# Altium footprint library HabLib.PcbLib: 72 footprints (part 1 of 5)
Each footprint in its own frame and in the unit in brackets; x right, y up, seen from the top. Pads: shape width x height; smd on the part's side, far side on the other; paste and mask are expansions set on the pad; w line width, h text height; cw(c..) or ccw(c..) is an arc to the next point about the centre after c.
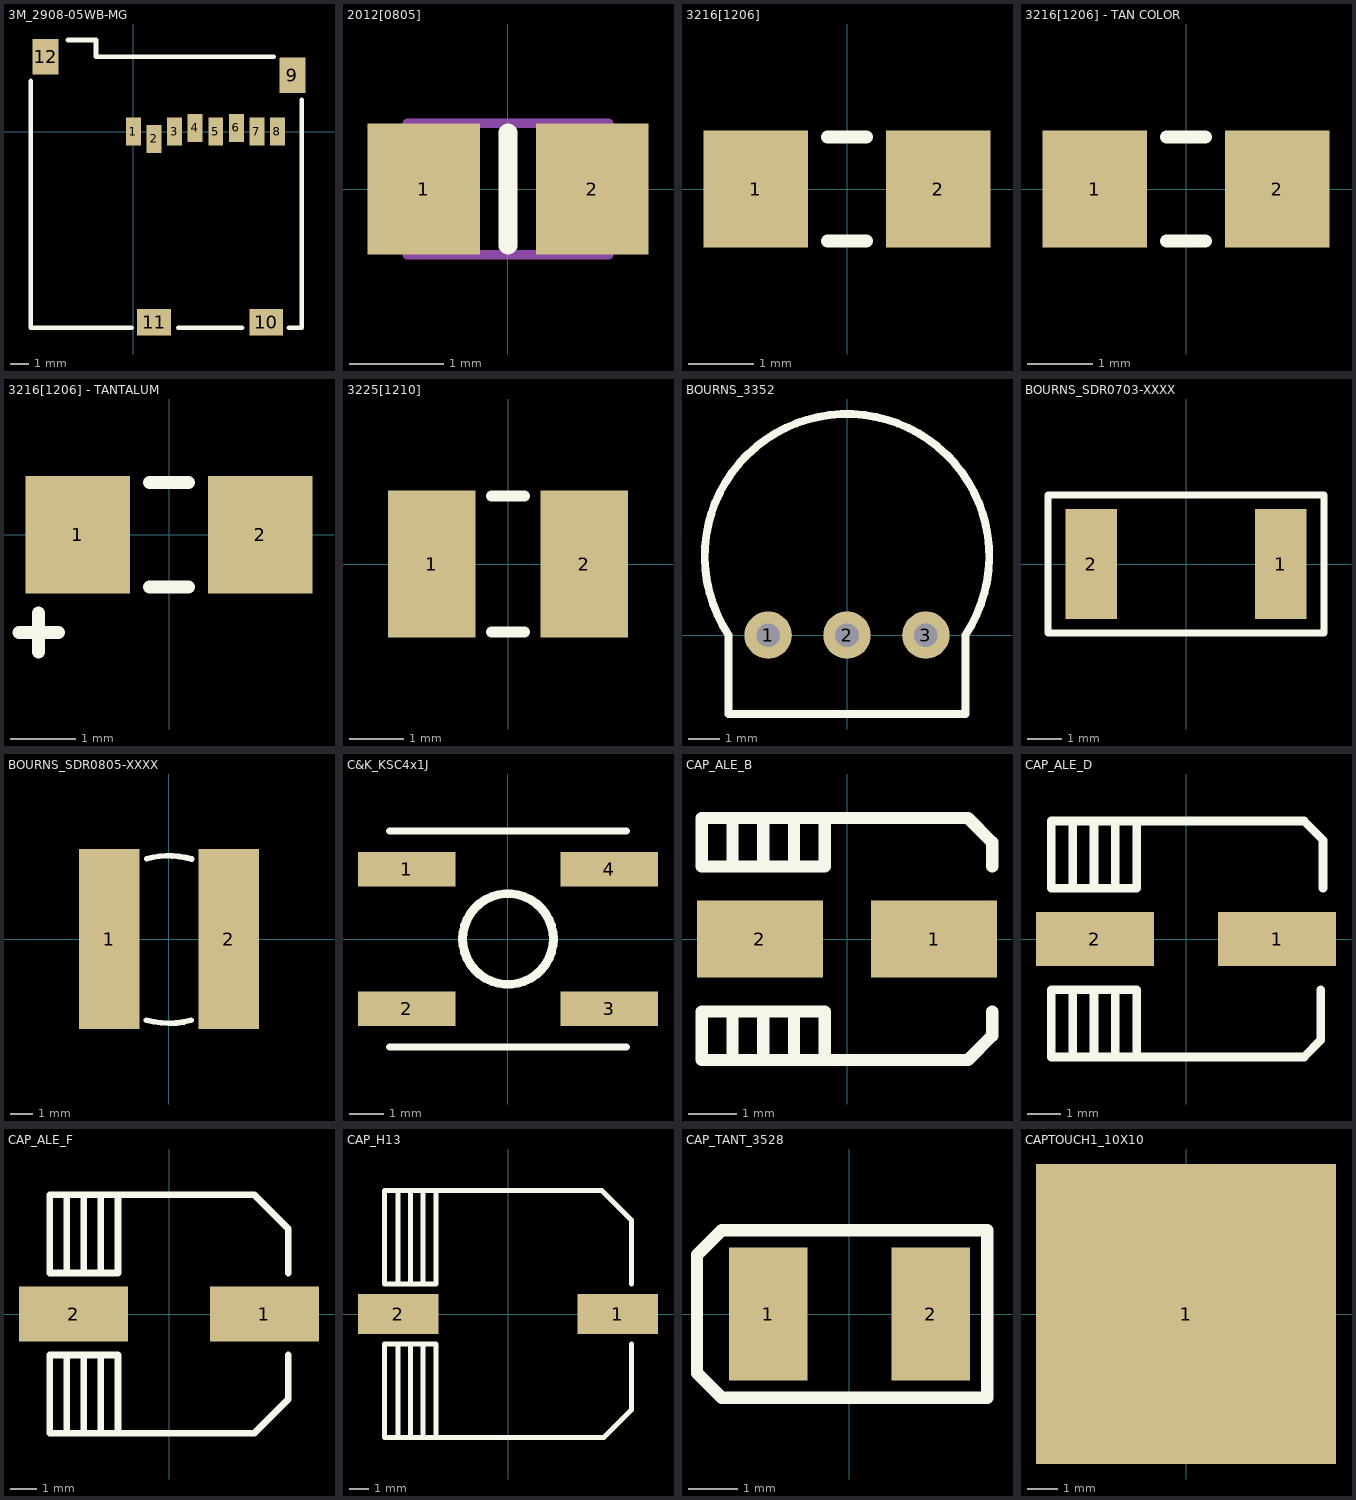
[diagram p0: the footprints below, top view; thin cyan lines are the x and y axes]

## 3M_2908-05WB-MG [mm] "MICROSD 8P PUSH PUSH"
pads (12):
  rect 0.8x1.5 smd: 1(0,0) 2(1.1,-0.4) 3(2.2,0) 4(3.3,0.2) 5(4.4,0) 6(5.5,0.2) 7(6.6,0) 8(7.7,0)
  rect 1.4x1.9 smd: 9(8.5,3) 12(-4.7,4)
  rect 1.8x1.4 smd: 10(7.1,-10.2) 11(1.1,-10.2)
Top Overlay:
  lines w0.254: -5.5,2.7 -5.5,-10.5 -0.1,-10.5 ; -3.5,4.9 -2,4.9 -2,4 7.5,4 ; 2.4,-10.5 5.8,-10.5 ; 8.3,-10.5 9,-10.5 9,1.7
3D body: height 1.85, standoff 0, extent -5.5,-10.5 9,5

## 2012[0805] [mm] "Chip Resistor, Body 2.0x1.3mm, IPC Medium Density"
height 0.65
pads (2):
  rect 1.2x1.4 smd: 1(-0.9,0) 2(0.9,0)
Top Overlay:
  lines w0.2: 0,-0.6 0,0.6
Mechanical 13:
  lines w0.1: -1.075,-0.7 1.075,-0.7 ; -1.075,0.7 1.075,0.7
Mechanical 15:
  lines w0.1: 0,-0.5 0,0.5
3D body: height 0.65, standoff 0, extent -1.2,-0.7 -0.8,0.7
3D body: height 0.65, standoff 0, extent -0.8,-0.7 0.8,0.7
3D body: height 0.65, standoff 0, extent 0.8,-0.7 1.2,0.7

## 3216[1206] [mm] "Chip Resistor; Body 3.2 x 1.6 mm (LxW typ)"
height 2.54
pads (2):
  rect 1.6x1.8 smd: 1(-1.4,0) 2(1.4,0)
Top Overlay:
  lines w0.2: -0.3,-0.8 0.3,-0.8 ; -0.3,0.8 0.3,0.8
3D body: height 0.56, standoff 0, extent 1.651,-0.762 2.032,0.762
3D body: height 0.56, standoff 0, extent -2.032,-0.762 -1.651,0.762
3D body: height 0.56, standoff 0, extent -1.651,-0.762 1.651,0.762

## 3216[1206] - TAN COLOR [mm] "Chip Resistor; Body 3.2 x 1.6 mm (LxW typ)"
height 2.54
pads (2):
  rect 1.6x1.8 smd: 1(-1.4,0) 2(1.4,0)
Top Overlay:
  lines w0.2: -0.3,-0.8 0.3,-0.8 ; -0.3,0.8 0.3,0.8
3D body: height 0.56, standoff 0, extent -1.651,-0.762 1.651,0.762
3D body: height 0.56, standoff 0, extent -2.032,-0.762 -1.651,0.762
3D body: height 0.56, standoff 0, extent 1.651,-0.762 2.032,0.762

## 3216[1206] - TANTALUM [mm] "Chip Resistor; Body 3.2 x 1.6 mm (LxW typ)"
height 2.54
pads (2):
  rect 1.6x1.8 smd: 1(-1.4,0) 2(1.4,0)
Top Overlay:
  lines w0.2: -0.3,-0.8 0.3,-0.8 ; -0.3,0.8 0.3,0.8
  lines w0.203: -2.3,-1.5 -1.7,-1.5 ; -2,-1.8 -2,-1.2
3D body: height 0.56, standoff 0, extent -2.032,-0.762 2.032,0.762
3D body: height 0.56, standoff 0.56, extent -2.032,-0.762 -1.651,0.762

## 3225[1210] [mm] "Chip Resistor; Body 3.2 x 2.5 mm (LxW typ)"
height 0.6
pads (2):
  rect 1.6x2.7 smd: 1(-1.4,0) 2(1.4,0)
Top Overlay:
  lines w0.2: -0.3,-1.25 0.3,-1.25 ; -0.3,1.25 0.3,1.25
3D body: height 0.56, standoff 0, extent 1.651,-1.143 2.032,1.143
3D body: height 0.56, standoff 0, extent -2.032,-1.143 -1.651,1.143
3D body: height 0.56, standoff 0, extent -1.651,-1.143 1.651,1.143

## BOURNS_3352 [mil] "RESISTOR POT THUMBWHEEL CERM TH"
pads (3):
  round 60 hole 30: 1(-100,0) 2(0,0) 3(100,0)
Top Overlay:
  lines w10: -150,-100 150,-100 150,0 ccw(c0,100) -150,0 -150,-100
3D body: height 50, standoff 0, extent -150,-100 150,150
3D body: height 105, standoff 55, extent -173.62,-74.65 175,274.66

## BOURNS_SDR0703-XXXX [mm] "BOURNS SDR0703-680KL INDUCTOR"
pads (2):
  rect 1.5x3.2 smd: 1(2.75,0) 2(-2.75,0)
Top Overlay:
  lines w0.2: -4,-2 -4,0.4 -4,2 4,2 4,-2 -4,-2
3D body: height 0.51, standoff 0, extent -3,-2 3,2
3D body: height 1.52, standoff 0.51, extent -2,-1.5 2,1.5
3D body: height 2.03, standoff 1.52, extent -2.5,-2 2.5,2

## BOURNS_SDR0805-XXXX [mm] "BOURNS SDR0805-680KL INDUCTOR"
pads (2):
  rect 2.7x8 smd: 1(-2.65,0) 2(2.65,0)
Top Overlay:
  lines w0.254: -0.999,-3.597 ccw(c0,0) 0.974,-3.604 ; -0.987,3.553 cw(c0,0) 1.013,3.546
3D body: height 1.5, standoff 0, extent -3.869,-3.892 3.9,3.892
3D body: height 3.5, standoff 1.5, extent -2.976,-2.994 3,2.994
3D body: height 5, standoff 3.5, extent -3.869,-3.892 3.9,3.892

## C&K_KSC4x1J [mm] "SWITCH TACTILE SM"
pads (4):
  rect 2.8x1 smd: 1(-2.9,2) 2(-2.9,-2) 3(2.9,-2) 4(2.9,2)
Top Overlay:
  circle w0.254: c0,0 r1.3
  lines w0.2: -3.4,-3.1 3.4,-3.1 ; -3.4,3.1 3.4,3.1
3D body: height 2.5, standoff 0, extent -3.4,-3.1 3.4,3.1
3D body: height 5.2, standoff 2.5, extent -1.29,-1.297 1.3,1.297

## CAP_ALE_B [mm]
pads (2):
  rect 2.6x1.6 smd: 1(1.8,0) 2(-1.8,0)
Top Overlay:
  lines w0.254: -2.365,-2.5 -2.365,-1.5 ; -2.365,1.5 -2.365,2.5 ; -1.73,-2.5 -1.73,-1.5 ; -1.73,1.5 -1.73,2.5 ; -1.095,-2.5 -1.095,-1.5 ; -1.095,1.5 -1.095,2.5 ; -0.46,-2.5 -0.46,-1.5 -3,-1.5 -3,-2.5 2.5,-2.5 3,-2 3,-1.5 ; -0.46,2.5 -0.46,1.5 -3,1.5 -3,2.5 2.5,2.5 3,2 3,1.5
3D body: height 1.4, standoff 0, extent -3,-2.5 3,2.5
3D body: height 5.84, standoff 1.4, extent -2.041,-2.053 2.057,2.053

## CAP_ALE_D [mm]
pads (2):
  rect 3.5x1.6 smd: 1(2.7,0) 2(-2.7,0)
Top Overlay:
  lines w0.254: -4,-2.04 -4,-1.913 ; -4,1.913 -4,2.04 ; -3.365,-3.5 -3.365,-1.5 ; -3.365,1.5 -3.365,3.5 ; -2.73,-3.5 -2.73,-1.5 ; -2.73,1.5 -2.73,3.5 ; -2.095,-3.5 -2.095,-1.5 ; -2.095,1.5 -2.095,3.5 ; -1.46,-3.5 -1.46,-1.5 -4,-1.5 -4,-3.5 3.5,-3.5 4,-3 4,-1.5 ; -1.46,3.5 -1.46,1.5 -4,1.5 -4,3.5 3.5,3.5 4.065,2.935 4.065,1.5
3D body: height 1.4, standoff 0, extent -4,-3.5 4.065,3.5
3D body: height 5.84, standoff 1.4, extent -3.15,-3.169 3.175,3.169

## CAP_ALE_F [mil]
pads (2):
  rect 160x80 smd: 1(140,0) 2(-140,0)
Top Overlay:
  lines w10: -175,-100 -175,-95 ; -150,-175 -150,-60 ; -150,60 -150,175 ; -125,-175 -125,-60 ; -125,60 -125,175 ; -100,-175 -100,-60 ; -100,60 -100,175 ; -75,-175 -75,-60 -175,-60 -175,-175 125,-175 175,-125 175,-60 ; -75,175 -75,60 -175,60 -175,175 125,175 175,125 175,60
3D body: height 75, standoff 0, extent -170,-170 170,170
3D body: height 475, standoff 75, extent -161.36,-161.68 161.36,161.68

## CAP_H13 [mil]
pads (2):
  rect 160x80 smd: 1(218.9,0) 2(-218.9,0)
Top Overlay:
  lines w10: -218.9,-246.06 -218.9,-60 ; -218.9,60 -218.9,246.06 ; -193.9,-246.06 -193.9,-60 ; -193.9,60 -193.9,246.06 ; -168.9,-246.06 -168.9,-60 ; -168.9,60 -168.9,246.06 ; -143.9,-246.06 -143.9,-60 -246.06,-60 -246.06,-246.06 190.94,-246.06 246.06,-190.94 246.06,-60 ; -143.9,246.06 -143.9,60 -246.06,60 -246.06,246.06 187.01,246.06 246.06,187.01 246.06,60
3D body: height 78.74, standoff 0, extent -246.06,-246.06 246.07,246.07
3D body: height 511.81, standoff 78.74, extent -244.12,-245.58 246.07,245.58

## CAP_TANT_3528 [mm] "Chip Capacitor, Body 3.81x2.54mm, IPC Medium Density"
height 1.66
pads (2):
  rect 1.6x2.7 smd: 1(-1.65,0) 2(1.65,0)
Top Overlay:
  lines w0.254: -3.1,-1.2 -3.1,1.2 -2.6,1.7 2.8,1.7 2.8,-1.7 -2.6,-1.7 -3.1,-1.2
3D body: height 1.66, standoff 0, extent -1.5,-1.4 2,1.4
3D body: height 1.66, standoff 0, extent -2,-1.4 -1.5,1.4
3D body: height 1, standoff 0, extent 2,-0.5 2.2,0.5
3D body: height 1, standoff 0, extent -2.2,-0.5 -2,0.5

## CAPTOUCH1_10X10 [mm] "Cap Touch pad 10x10mm"
height 0.65
pads (1):
  rect 10x10 smd: 1(0,0)